# EAGLE library part STM32L476R (library CougsInSpace)
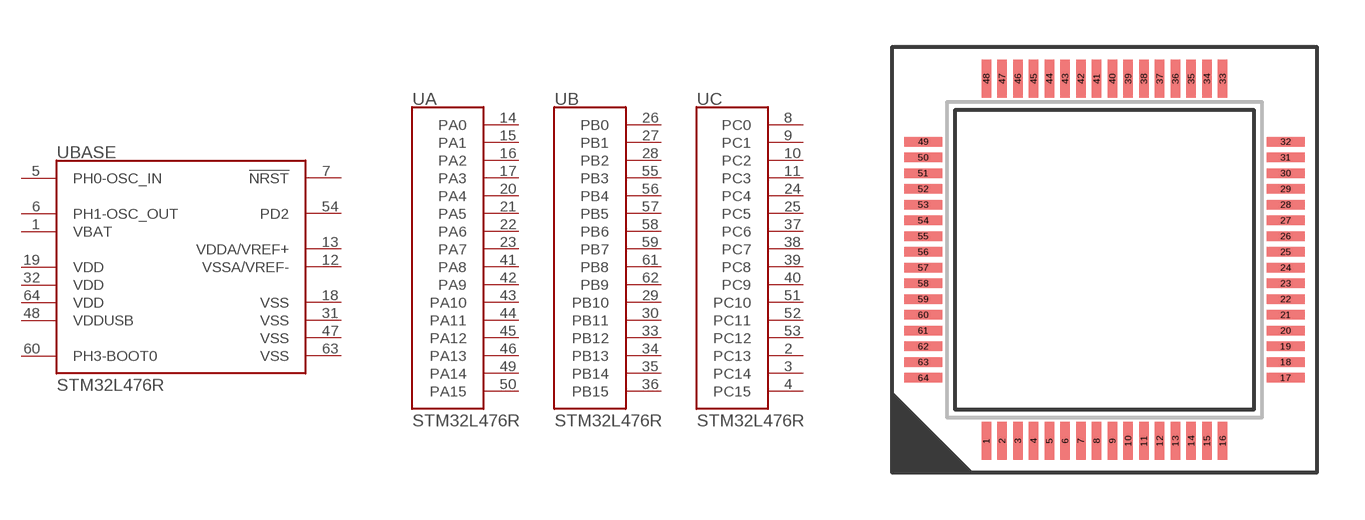
[diagram p24: symbol with the pads of QFP64-10X10; footprint QFP64-10X10]

Designator prefix U; gates BASE=STM32L476_BASE A=GPIO_A B=GPIO_B C=GPIO_C

## STM32L476RT  [QFP64-10X10]
1  BASE:VBAT  pas
2  C:PC13
3  C:PC14
4  C:PC15
5  BASE:PH0-OSC_IN
6  BASE:PH1-OSC_OUT
7  BASE:!NRST  in
8  C:PC0
9  C:PC1
10  C:PC2
11  C:PC3
12  BASE:VSSA/VREF-  pwr
13  BASE:VDDA/VREF+  pwr
14  A:PA0
15  A:PA1
16  A:PA2
17  A:PA3
18  BASE:VSS  pwr
19  BASE:VDD  pwr
20  A:PA4
21  A:PA5
22  A:PA6
23  A:PA7
24  C:PC4
25  C:PC5
26  B:PB0
27  B:PB1
28  B:PB2
29  B:PB10
30  B:PB11
31  BASE:VSS  pwr
32  BASE:VDD  pwr
33  B:PB12
34  B:PB13
35  B:PB14
36  B:PB15
37  C:PC6
38  C:PC7
39  C:PC8
40  C:PC9
41  A:PA8
42  A:PA9
43  A:PA10
44  A:PA11
45  A:PA12
46  A:PA13
47  BASE:VSS  pwr
48  BASE:VDDUSB  pwr
49  A:PA14
50  A:PA15
51  C:PC10
52  C:PC11
53  C:PC12
54  BASE:PD2
55  B:PB3
56  B:PB4
57  B:PB5
58  B:PB6
59  B:PB7
60  BASE:PH3-BOOT0  in
61  B:PB8
62  B:PB9
63  BASE:VSS  pwr
64  BASE:VDD  pwr

## Footprint QFP64-10X10 (pad centres in mm)
smd 0.3 x 1.2: 1 -3.75,-5.75; 2 -3.25,-5.75; 3 -2.75,-5.75; 4 -2.25,-5.75; 5 -1.75,-5.75; 6 -1.25,-5.75; 7 -0.75,-5.75; 8 -0.25,-5.75; 9 0.25,-5.75; 10 0.75,-5.75; 11 1.25,-5.75; 12 1.75,-5.75; 13 2.25,-5.75; 14 2.75,-5.75; 15 3.25,-5.75; 16 3.75,-5.75; 33 3.75,5.75; 34 3.25,5.75; 35 2.75,5.75; 36 2.25,5.75; 37 1.75,5.75; 38 1.25,5.75; 39 0.75,5.75; 40 0.25,5.75; 41 -0.25,5.75; 42 -0.75,5.75; 43 -1.25,5.75; 44 -1.75,5.75; 45 -2.25,5.75; 46 -2.75,5.75; 47 -3.25,5.75; 48 -3.75,5.75
smd 1.2 x 0.3: 17 5.75,-3.75; 18 5.75,-3.25; 19 5.75,-2.75; 20 5.75,-2.25; 21 5.75,-1.75; 22 5.75,-1.25; 23 5.75,-0.75; 24 5.75,-0.25; 25 5.75,0.25; 26 5.75,0.75; 27 5.75,1.25; 28 5.75,1.75; 29 5.75,2.25; 30 5.75,2.75; 31 5.75,3.25; 32 5.75,3.75; 49 -5.75,3.75; 50 -5.75,3.25; 51 -5.75,2.75; 52 -5.75,2.25; 53 -5.75,1.75; 54 -5.75,1.25; 55 -5.75,0.75; 56 -5.75,0.25; 57 -5.75,-0.25; 58 -5.75,-0.75; 59 -5.75,-1.25; 60 -5.75,-1.75; 61 -5.75,-2.25; 62 -5.75,-2.75; 63 -5.75,-3.25; 64 -5.75,-3.75